# Altium footprint library PcbLib1.PcbLib: 6 footprints
Each footprint in its own frame and in the unit in brackets; x right, y up, seen from the top. Pads: shape width x height; smd on the part's side, far side on the other; paste and mask are expansions set on the pad; w line width, h text height; cw(c..) or ccw(c..) is an arc to the next point about the centre after c.
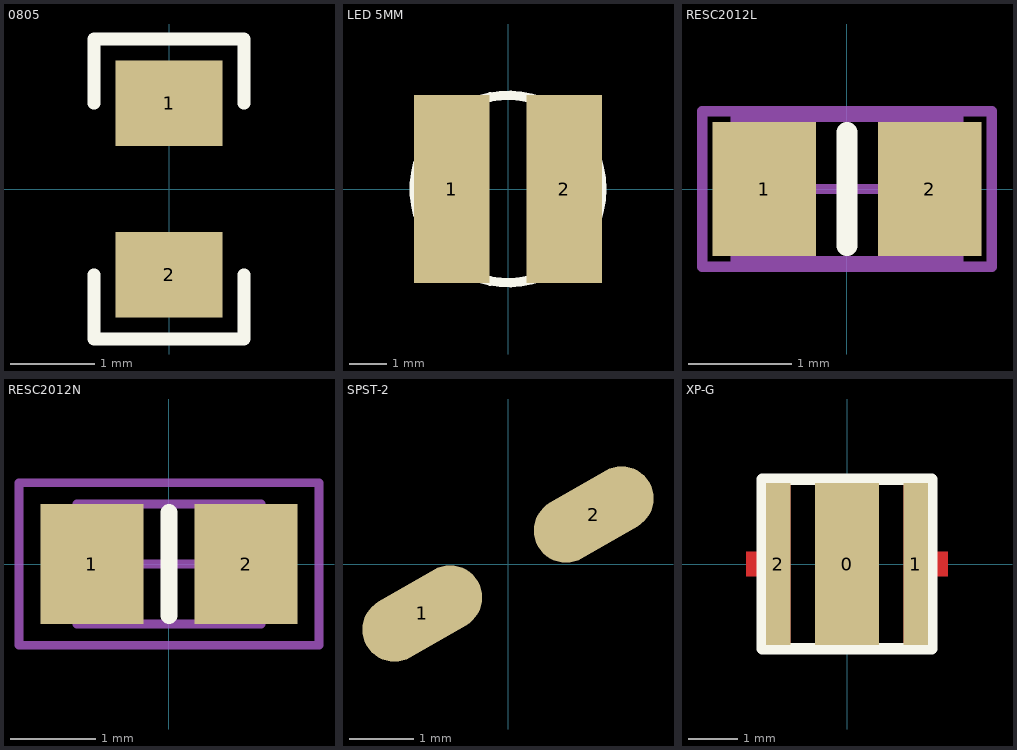
[diagram p0: the footprints below, top view; thin cyan lines are the x and y axes]

## 0805 [mil]
pads (2):
  rect 50x40 smd: 1(0,40) 2(0,-40)
Top Overlay:
  lines w6: -35,-40 -35,-70 35,-70 35,-40 ; -35,40 -35,70 35,70 35,40

## LED 5MM [mm]
pads (2):
  rect 2x5 smd: 1(-1.5,0) 2(1.5,0)
Top Overlay:
  circle w0.254: c0,0 r2.5

## RESC2012L [mm] "Chip Resistor, Body 2.0x1.3mm, IPC High Density"
height 0.65
pads (2):
  rect 1x1.3 smd: 1(-0.8,0) 2(0.8,0)
Top Overlay:
  lines w0.2: 0,-0.55 0,0.55
Mechanical 13:
  lines w0.1: -1.075,-0.7 -1.075,0.7 1.075,0.7 1.075,-0.7 -1.075,-0.7
Mechanical 15:
  lines w0.1: -0.5,0 0.5,0 ; 0,-0.5 0,0.5 ; -1.4,-0.75 -1.4,0.75 1.4,0.75 1.4,-0.75 -1.4,-0.75
3D body: height 0.65, standoff 0, extent -1.075,-0.7 1.075,0.7

## RESC2012N [mm] "Chip Resistor, Body 2.0x1.3mm, IPC Medium Density"
height 0.65
pads (2):
  rect 1.2x1.4 smd: 1(-0.9,0) 2(0.9,0)
Top Overlay:
  lines w0.2: 0,-0.6 0,0.6
Mechanical 13:
  lines w0.1: -1.075,-0.7 -1.075,0.7 1.075,0.7 1.075,-0.7 -1.075,-0.7
Mechanical 15:
  lines w0.1: -0.5,0 0.5,0 ; 0,-0.5 0,0.5 ; -1.75,-0.95 -1.75,0.95 1.75,0.95 1.75,-0.95 -1.75,-0.95
3D body: height 0.65, standoff 0, extent -1.075,-0.7 1.075,0.7

## SPST-2 [mm] "Switch; 2 Leads"
pads (2):
  oval 2x1 smd rot 30: 1(-1.334,-0.77) 2(1.334,0.77)

## XP-G [mm]
pads (3):
  rect 1.3x3.3 smd: 0(0,0)
  rect 0.5x3.3 smd: 1(1.4,0) 2(-1.4,0)
Top Layer:
  region: 2.05,-0.25 2.05,0.25 1.65,0.25 1.65,1.65 1.15,1.65 1.15,-1.65 1.65,-1.65 1.65,-0.25
  region: -2.05,0.25 -2.05,-0.25 -1.65,-0.25 -1.65,-1.65 -1.15,-1.65 -1.15,1.65 -1.65,1.65 -1.65,0.25
Top Overlay:
  lines w0.24: -1.725,-1.725 1.725,-1.725 1.725,1.725 -1.725,1.725 -1.725,-1.725
Top Solder:
  region: 2.15,-0.35 1.75,-0.35 1.75,-1.75 1.05,-1.75 1.05,1.75 1.75,1.75 1.75,0.35 2.15,0.35
  region: -2.15,0.35 -1.75,0.35 -1.75,1.75 -1.05,1.75 -1.05,-1.75 -1.75,-1.75 -1.75,-0.35 -2.15,-0.35